# Altium schematic symbol library Diode+TVS.SchLib: 36 symbols
Pins are listed as number, name and electrical type; pins without a type are passive.

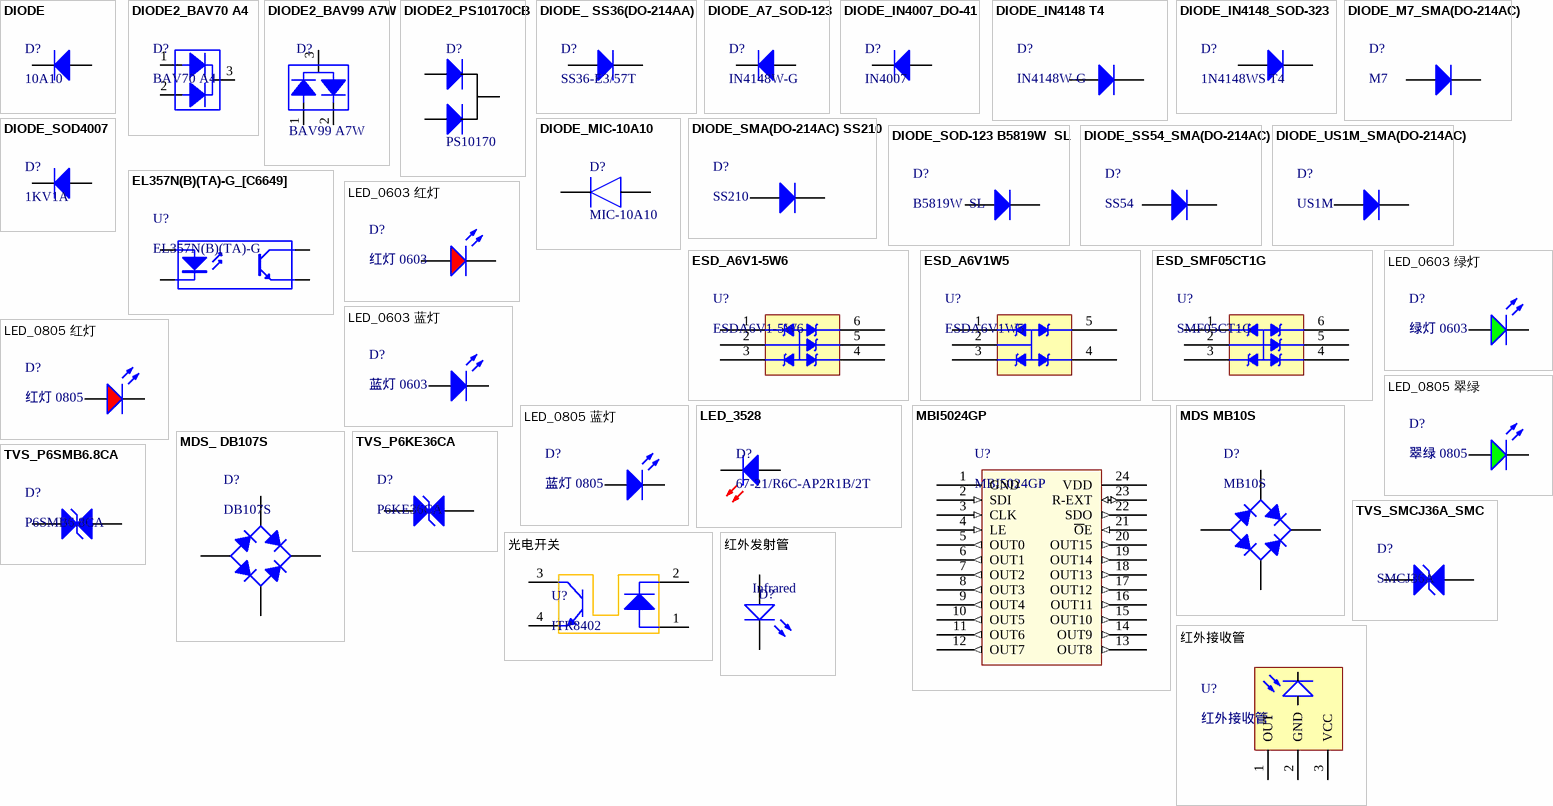
[diagram p0: symbols DIODE to 红外接收管]

## DIODE
designator D?, comment 10A10
二极管; 备注: 1N4007 4007 编号C2464 已经停售, 使用新物料编号C95872; ComponentLink1Description: 供应商链接; ComponentLink1URL: http://www.szlcsc.com/product/details_2841.html; Package: SMA(DO-214AC); Supplier: LC; SuppliersPartNumber: C95872
footprint R-6-17MM
pins: 1 A, 2 K

## DIODE2_BAV70 A4
designator D?, comment BAV70 A4
开关二极管; ComponentLink1Description: 供应商链接; ComponentLink1URL: http://www.szlcsc.com/product/details_70091.html; Package: SOT-23; Supplier: LC; SuppliersPartNumber: C68978
footprint SOT-23-3W
pins: 1 A, 2 A, 3 K

## DIODE2_BAV99 A7W
designator D?, comment BAV99 A7W
开关二极管; ComponentLink1Description: 供应商链接; ComponentLink1URL: http://www.szlcsc.com/product/details_2877.html; Package: SOT-23; Supplier: LC; SuppliersPartNumber: C2500
footprint SOT-23-3W
pins: 1 A, 2 A, 3 K

## DIODE2_PS10170CB
designator D?, comment PS10170
复合二极管; ComponentLink1Description: 网络链接; ComponentLink1URL: http://item.szlcsc.com/166994.html
footprint TO-252-2
pins: 1, 2, 3

## DIODE_ SS36(DO-214AA)
designator D?, comment SS36-E3/57T
二极管; ComponentLink1Description: 供应商链接; ComponentLink1URL: http://www.szlcsc.com/product/details_36698.html; Package: SMC(DO-214AB); Supplier: LC; SuppliersPartNumber: C35722
footprint DO-214AA/SMB
pins: 1 A, 2 K

## DIODE_A7_SOD-123
designator D?, comment IN4148W-G
开关二极管; 备注: 1N4007 4007 编号C2464 已经停售, 使用新物料编号C95872; ComponentLink1Description: 供应商链接; ComponentLink1URL: http://www.szlcsc.com/product/details_2841.html; Package: SMA(DO-214AC); Supplier: LC; SuppliersPartNumber: C95872
footprint SOD-123
pins: 1 A, 2 K

## DIODE_IN4007_DO-41
designator D?, comment IN4007
二极管
footprint DO-41
pins: 1 A, 2 K

## DIODE_IN4148 T4
designator D?, comment IN4148W-G
开关二极管; ComponentLink1Description: 供应商链接; ComponentLink1URL: http://www.szlcsc.com/product/details_10338.html; Package: LL-34; Supplier: LC; SuppliersPartNumber: C9808
footprint LL-34
pins: 1 A, 2 K

## DIODE_IN4148_SOD-323
designator D?, comment 1N4148WS T4
二极管; ComponentLink1Description: 供应商链接; ComponentLink1URL: http://www.szlcsc.com/product/details_2485.html; Package: SOD-323; Supplier: LC; SuppliersPartNumber: C2128
footprint SOD-323
pins: 1 A, 2 K

## DIODE_M7_SMA(DO-214AC)
designator D?, comment M7
二极管; 备注: 1N4007 4007 编号C2464 已经停售, 使用新物料编号C95872; ComponentLink1Description: 供应商链接; ComponentLink1URL: http://www.szlcsc.com/product/details_2841.html; Package: SMA(DO-214AC); Supplier: LC; SuppliersPartNumber: C95872
footprint SMA(DO-214AC)
pins: 1 A, 2 K

## DIODE_MIC-10A10
designator D?, comment MIC-10A10
Diode 10A 1000V; Manufacturer_Name: STMicroelectronics; Manufacturer_Part_Number: BZW50-27; Allied_Number: 70389896; RS Part Number: 7147033; RS Price/Stock: http://uk.rs-online.com/web/p/tvs-diodes/7147033/?source=DS; Allied Price/Stock: http://www.alliedelec.com/stmicroelectronics-bzw50-27/70389896/; Arrow Part Number: BZW50-27; Arrow Price/Stock: https://www.arrow.com/en/products/bzw50-27/stmicroelectronics; Datasheet Link: http://www.st.com/web/en/resource/technical/document/datasheet/CD00000695.pdf
footprint R-6
pins: 1 K, 2 A

## DIODE_SMA(DO-214AC) SS210
designator D?, comment SS210
二极管; ComponentLink1Description: 供应商链接; ComponentLink1URL: http://www.szlcsc.com/product/details_15669.html; Package: SMA(DO-214AC); Supplier: LC; SuppliersPartNumber: C14996
footprint SMA(DO-214AC)_S1
pins: 1 A, 2 K

## DIODE_SOD4007
designator D?, comment 1KV1A
二极管; 备注: 1N4007 4007 编号C2464 已经停售, 使用新物料编号C95872; Package: SMA(DO-214AC); Supplier: LC; SuppliersPartNumber: C95872; ComponentLink1Description: 供应商; ComponentLink1URL: https://so.szlcsc.com/global.html?os=&sb=0&pn=1&c=&k=4007&tc=0&pds=SOD-123F&pa=0&gp=211&st=&sk=4007&bp=&ep=&pageNumber=1
footprint SOD-123F_A7
pins: 1 A, 2 K

## DIODE_SOD-123 B5819W  SL
designator D?, comment B5819W  SL
肖特基二极管; ComponentLink1Description: 供应商链接; ComponentLink1URL: http://www.szlcsc.com/product/details_9093.html; Package: SOD-123; Supplier: LC; SuppliersPartNumber: C8598
footprint SOD-123
pins: 1 A, 2 K

## DIODE_SS54_SMA(DO-214AC)
designator D?, comment SS54
二极管; ComponentLink1Description: 供应商链接; ComponentLink1URL: http://www.szlcsc.com/product/details_23178.html; Package: SMA(DO-214AC); Supplier: LC; SuppliersPartNumber: C22452
footprint SMA(DO-214AC)_S1
pins: 1 A, 2 K

## DIODE_US1M_SMA(DO-214AC)
designator D?, comment US1M
二极管; ComponentLink1Description: 供应商链接; ComponentLink1URL: http://www.szlcsc.com/product/details_5885.html; Package: SMA(DO-214AC); Supplier: LC; SuppliersPartNumber: C5441
footprint SMA(DO-214AC)_S1
pins: 1 A, 2 K

## EL357N(B)(TA)-G_[C6649]
designator U?, comment EL357N(B)(TA)-G
贴片光耦; ComponentLink1Description: 供应商链接; ComponentLink1URL: http://www.szlcsc.com/product/details_7114.html; Package: SOP-4_P2.54; Supplier: LC; SuppliersPartNumber: C6649
footprint SOP-4_P2.54
pins: 1 A "Anode", 2 K "Cathode", 3 E "Emitter", 4 C "Collector"

## ESD_A6V1-5W6
designator U?, comment ESDA6V1-5W6
ESD静电保护管; ComponentLink1Description: 供应商链接; ComponentLink1URL: http://www.szlcsc.com/product/details_16561.html; Package: SC-70-6(SOT-363); Supplier: LC; SuppliersPartNumber: C15879
footprint SOT-323-6L (E62)
pins: 1, 2, 3, 4, 5, 6

## ESD_A6V1W5
designator U?, comment ESDA6V1W5
ESD静电保护管; Package: SC-70-6(SOT-363); Supplier: LC; SuppliersPartNumber: C15879; ComponentLink1Description: 供应商; ComponentLink1URL: https://item.szlcsc.com/49685.html
footprint SOT-323-5L (E61)
pins: 1, 2, 3, 4, 5

## ESD_SMF05CT1G
designator U?, comment SMF05CT1G
ESD静电保护管; ComponentLink1Description: 供应商链接; ComponentLink1URL: http://www.szlcsc.com/product/details_16561.html; Package: SC-70-6(SOT-363); Supplier: LC; SuppliersPartNumber: C15879
footprint SC-70-6(SOT-363)
pins: 1, 2, 3, 4, 5, 6

## LED_0603 红灯
designator D?, comment 红灯 0603
发光二极管; ComponentLink1Description: 供应商链接; ComponentLink1URL: http://www.szlcsc.com/product/details_2659.html; Package: 0603; Supplier: LC; SuppliersPartNumber: C2286
footprint 0603_LED
pins: A, K

## LED_0603 绿灯
designator D?, comment 绿灯 0603
发光二极管; ComponentLink1Description: 供应商链接; ComponentLink1URL: http://www.szlcsc.com/product/details_73152.html; Package: 0603; Supplier: LC; SuppliersPartNumber: C72043
footprint 0603_LED
pins: A, K

## LED_0603 蓝灯
designator D?, comment 蓝灯 0603
发光二极管; ComponentLink1Description: 供应商链接; ComponentLink1URL: http://www.szlcsc.com/product/details_73150.html; Package: 0603; Supplier: LC; SuppliersPartNumber: C72041
footprint 0603_LED
pins: A, K

## LED_0805 红灯
designator D?, comment 红灯 0805
发光二极管; ComponentLink1Description: 供应商链接; ComponentLink1URL: http://www.szlcsc.com/product/details_2668.html; Package: 0805; Supplier: LC; SuppliersPartNumber: C2295
footprint 0805_LED_S1
footprint LED 5MM RED
pins: A, K

## LED_0805 翠绿
designator D?, comment 翠绿 0805
发光二极管; ComponentLink1Description: 供应商链接; ComponentLink1URL: http://www.szlcsc.com/product/details_2670.html; Package: 0805; Supplier: LC; SuppliersPartNumber: C2297
footprint 0805_LED_S1
pins: A, K

## LED_0805 蓝灯
designator D?, comment 蓝灯 0805
发光二极管; ComponentLink1Description: 供应商链接; ComponentLink1URL: http://www.szlcsc.com/product/details_2666.html; Package: 0805; Supplier: LC; SuppliersPartNumber: C2293
footprint 0805_LED_S1
pins: A, K

## LED_3528
designator D?, comment 67-21/R6C-AP2R1B/2T
发光二极管; ComponentLink1Description: 供应商链接; ComponentLink1URL: https://item.szlcsc.com/75469.html; Package: 0805; Supplier: LC; SuppliersPartNumber: C2293; ComponentLink2Description: 生产商; ComponentLink2URL: https://www.everlight.com/SeriationProduct.aspx?Seq=B3D6B83A-2405-E411-8B3B-0002A54E500F
footprint 3528X19N_LED (Molded Diode, 2-Leads, Body 3.10x2.20mm, IPC Medium Density)
footprint LED 5MM RED
pins: A, K

## MBI5024GP
designator U?
LED驱动; ComponentLink1Description: 贸易商; ComponentLink1URL: https://item.szlcsc.com/83753.html
footprint SSOP-24L-150mil-0.64 (SOP, 24-Leads, Body 8.65x3.90mm, Pitch 0.64mm, IPC High Density)
pins: 1 GND (power), 2 SDI (in), 3 CLK (in), 4 LE (in), 5 OUT0 (out), 6 OUT1 (out), 7 OUT2 (out), 8 OUT3 (out), 9 OUT4 (out), 10 OUT5 (out), 11 OUT6 (out), 12 OUT7 (out), 13 OUT8 (out), 14 OUT9 (out), 15 OUT10 (out), 16 OUT11 (out), 17 OUT12 (out), 18 OUT13 (out), 19 OUT14 (out), 20 OUT15 (out), 21 ~{O}E (in), 22 SDO (out), 23 R-EXT (io), 24 VDD (power)

## MDS MB10S
designator D?, comment MB10S
整流桥; ComponentLink1Description: 供应商链接; ComponentLink1URL: http://www.szlcsc.com/product/details_2865.html; Package: MBS; Supplier: LC; SuppliersPartNumber: C2488
footprint MBS
pins: 1 C, 2 K, 3 C, 4 A

## MDS_ DB107S
designator D?, comment DB107S
整流桥; ComponentLink1Description: 供应商链接; ComponentLink1URL: http://www.szlcsc.com/product/details_5809.html; Package: DBS; Supplier: LC; SuppliersPartNumber: C5377
footprint DBS
pins: 1 C, 2 K, 3 C, 4 A

## TVS_P6KE36CA
designator D?, comment P6KE36CA
ComponentLink1Description: 供应商链接; ComponentLink1URL: http://www.szlcsc.com/product/details_79530.html; Package: SMB/DO-214AA; Supplier: LC; SuppliersPartNumber: C78395
footprint DO-15
pins: 1 A, 2 K

## TVS_P6SMB6.8CA
designator D?, comment P6SMB6.8CA
TVS SMB/DO-214AA; ComponentLink1Description: 供应商链接; ComponentLink1URL: http://www.szlcsc.com/product/details_79530.html; Package: SMB/DO-214AA; Supplier: LC; SuppliersPartNumber: C78395
footprint SMB(DO-214AA)
pins: 1 A, 2 K

## TVS_SMCJ36A_SMC
designator D?, comment SMCJ36A
ComponentLink1Description: 供应商链接; ComponentLink1URL: http://www.szlcsc.com/product/details_79530.html; Package: SMB/DO-214AA; Supplier: LC; SuppliersPartNumber: C78395
footprint SMB(DO-214AA)_S1
pins: 1 A, 2 K

## 光电开关
designator U?, comment ITR8402
ComponentLink1Description: 供应商链接; ComponentLink1URL: http://www.szlcsc.com/product/details_73150.html; Package: 0603; Supplier: LC; SuppliersPartNumber: C72041
footprint DIP-4_ITR8402 (光电开关)
pins: 1 A, 2 K, 3 C, 4 E

## 红外发射管
designator D?, comment Infrared
footprint RB01/02 (红外发射管)
pins: A, K

## 红外接收管
designator U?
ComponentLink1Description: 供应商链接; ComponentLink1URL: http://www.szlcsc.com/product/details_2663.html; Package: 0603; Supplier: LC; SuppliersPartNumber: C2290
footprint 红外接收管
pins: 1 OUT, 2 GND, 3 VCC